# Altium footprint library 6D3L11V.PcbLib: 1 footprints
Each footprint in its own frame and in the unit in brackets; x right, y up, seen from the top. Pads: shape width x height; smd on the part's side, far side on the other; paste and mask are expansions set on the pad; w line width, h text height; cw(c..) or ccw(c..) is an arc to the next point about the centre after c.
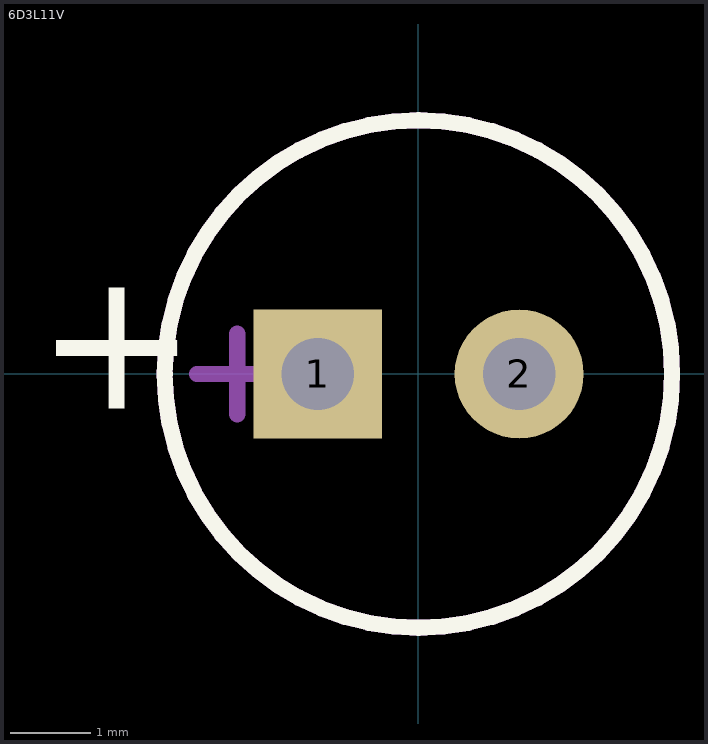
[diagram p0: the footprint, top view; thin cyan lines are the x and y axes]

## 6D3L11V [mm]
height 14
pads (2):
  rect 1.6x1.6 hole 0.9: 1(-1.25,0)
  round 1.6 hole 0.9: 2(1.25,0)
Top Overlay:
  circle w0.2: c0,0 r3.15
  text "+" at -4.75,-1 h3
Mechanical 7:
  circle w0.2: c0,0 r3.15
  lines w0.2: -2.75,0 -1.75,0 ; -2.25,-0.5 -2.25,0.5
3D body "cap_el_d6.3_h11_pitch2.5_w0.5.stp": height 11.01, standoff -3, extent -3.15,-3.148 3.16,3.148